# EAGLE library part IMU_9AXIS (library quadparts)
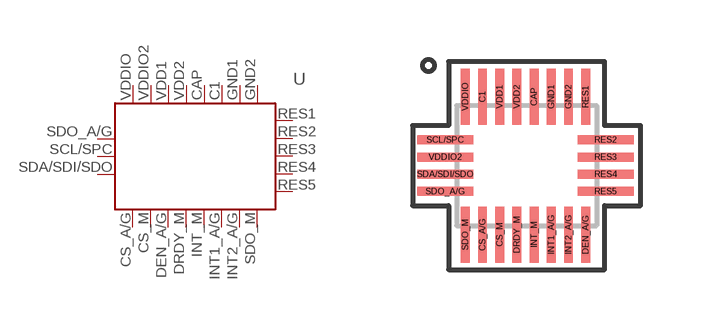
[diagram p0: symbol with the pads of IMU_9AXIS; footprint IMU_9AXIS]

Designator prefix U

## IMU_9AXIS (CREATOR: Alex Orr; DIST: Digikey; DISTPN: 497-14946-1-ND; MFR: STMicroelectronics; MPN: LSM9DS1TR; REVIEWER: John Wu)  [IMU_9AXIS]
C1  C1
CAP  CAP
CS_A/G  CS_A/G
CS_M  CS_M
DEN_A/G  DEN_A/G
DRDY_M  DRDY_M
GND1  GND1
GND2  GND2
INT1_A/G  INT1_A/G
INT2_A/G  INT2_A/G
INT_M  INT_M
RES1  RES1
RES2  RES2
RES3  RES3
RES4  RES4
RES5  RES5
SCL/SPC  SCL/SPC
SDA/SDI/SDO  SDA/SDI/SDO
SDO_A/G  SDO_A/G
SDO_M  SDO_M
VDD1  VDD1
VDD2  VDD2
VDDIO  VDDIO1
VDDIO2  VDDIO2

## Footprint IMU_9AXIS (pad centres in mm)
smd 0.224 x 1.4: C1 -1.075,1.725; CAP 0.215,1.725; CS_A/G -1.075,-1.725; CS_M -0.645,-1.725; DEN_A/G 1.505,-1.725; DRDY_M -0.215,-1.725; GND1 0.645,1.725; GND2 1.075,1.725; INT1_A/G 0.645,-1.725; INT2_A/G 1.075,-1.725; INT_M 0.215,-1.725; SDO_M -1.505,-1.725; VDD1 -0.645,1.725; VDD2 -0.215,1.725; VDDIO -1.505,1.725
smd 0.225 x 1.4: RES1 1.505,1.725
smd 1.4 x 0.225: RES2 2.005,0.645; RES3 2.005,0.215; RES4 2.005,-0.215; RES5 2.005,-0.645
smd 1.4 x 0.224: SCL/SPC -2.005,0.645; SDA/SDI/SDO -2.005,-0.215; SDO_A/G -2.005,-0.645; VDDIO2 -2.005,0.215